# EAGLE library part GE28F__L18_T85-VFBGA56 (library zz-m-pad-2.1)
Intel StrataFlash® Wireless Memory (L18) 28F640L18, 28F128L18, 28F256L18 Package: VFBGA-56 Description: The Intel StrataFlash® wireless memory (L18) device is the latest generation of Intel StrataFlash® memory devices featuring flexible, multiple-partition, dual operation. It provides high performance synchronous-burst read mode and asynchronous read mode using 1.8 V lowvoltage, multi-level cell (MLC) technology. High performance Read-While-Write/Erase -85 ns initial access -54 MHz with zero wait state, 14 ns clock-todata output synchronous-burst mode -25 ns asynchronous-page mode -4-, 8-, 16-, and continuous-word burst mode -Burst suspend -Programmable WAIT configuration -Buffered Enhanced Factory Programming (Buffered EFP): 5 µs/byte (Typ) -1.8 V low-power buffered and non-buffered programming at 7 µs/byte (Typ) Architecture -Asymmetrically-blocked architecture -Multiple 8-Mbit partitions: 64Mb and 128Mb devices -Multiple 16-Mbit partitions: 256Mb devices -Four 16-Kword parameter blocks: top or bottom configurations -64-Kword main blocks -Dual-operation: Read-While-Write (RWW) or Read-While-Erase (RWE) -Status register for partition and device status Power -1.7 V - 2.0 V VCC operation -I/O voltage: 1.35 V - 2.0 V, 1.7 V - 2.0 V -Standby current: 25 µA (Typ) -4-Word synchronous read current: 17 mA (Typ) at 54 MHz -Automatic Power Savings (APS) mode Please send any comments to: messi@users.sourceforge.net
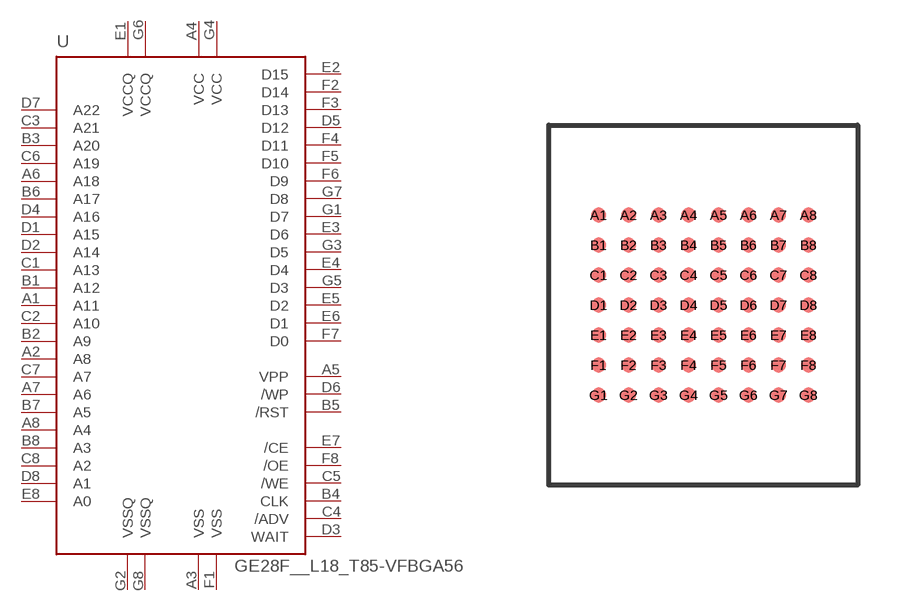
[diagram p17: symbol with the pads of 56VFBGA; footprint 56VFBGA]

Designator prefix U

## GE28F__L18_T85-VFBGA56  [56VFBGA]
A1  A11  in
A2  A8  in
A3  VSS  pwr
A4  VCC  in
A5  VPP  pwr
A6  A18  in
A7  A6  in
A8  A4  in
B1  A12  in
B2  A9  in
B3  A20  in
B4  CLK  in
B5  /RST  in
B6  A17  in
B7  A5  in
B8  A3  in
C1  A13  in
C2  A10  in
C3  A21  in
C4  /ADV  in
C5  /WE  in
C6  A19  in
C7  A7  in
C8  A2  in
D1  A15  in
D2  A14  in
D3  WAIT  out
D4  A16  in
D5  D12
D6  /WP  in
D7  A22  in
D8  A1  in
E1  VCCQ  in
E2  D15
E3  D6
E4  D4
E5  D2
E6  D1
E7  /CE  in
E8  A0  in
F1  VSS  pwr
F2  D14
F3  D13
F4  D11
F5  D10
F6  D9
F7  D0
F8  /OE  in
G1  D7
G2  VSSQ  pwr
G3  D5
G4  VCC  in
G5  D3
G6  VCCQ  in
G7  D8
G8  VSSQ  pwr

## Footprint 56VFBGA (pad centres in mm)
64- and 128-Mbit, 56-Ball VF BGA Package package with a 7 x 8 active-ball matrix pitch: 0.75 mm balldiameter: 0.375 Please send any comments to: messi@users.sourceforge.net
smd 0.375 x 0.375: A1 -2.625,2.25; A2 -1.875,2.25; A3 -1.125,2.25; A4 -0.375,2.25; A5 0.375,2.25; A6 1.125,2.25; A7 1.875,2.25; A8 2.625,2.25; B1 -2.625,1.5; B2 -1.875,1.5; B3 -1.125,1.5; B4 -0.375,1.5; B5 0.375,1.5; B6 1.125,1.5; B7 1.875,1.5; B8 2.625,1.5; C1 -2.625,0.75; C2 -1.875,0.75; C3 -1.125,0.75; C4 -0.375,0.75; C5 0.375,0.75; C6 1.125,0.75; C7 1.875,0.75; C8 2.625,0.75; D1 -2.625,0; D2 -1.875,0; D3 -1.125,0; D4 -0.375,0; D5 0.375,0; D6 1.125,0; D7 1.875,0; D8 2.625,0; E1 -2.625,-0.75; E2 -1.875,-0.75; E3 -1.125,-0.75; E4 -0.375,-0.75; E5 0.375,-0.75; E6 1.125,-0.75; E7 1.875,-0.75; E8 2.625,-0.75; F1 -2.625,-1.5; F2 -1.875,-1.5; F3 -1.125,-1.5; F4 -0.375,-1.5; F5 0.375,-1.5; F6 1.125,-1.5; F7 1.875,-1.5; F8 2.625,-1.5; G1 -2.625,-2.25; G2 -1.875,-2.25; G3 -1.125,-2.25; G4 -0.375,-2.25; G5 0.375,-2.25; G6 1.125,-2.25; G7 1.875,-2.25; G8 2.625,-2.25